# EAGLE library part LM358 (library kennethlimcp)
LM358, two independent, high-gain, Wide Supply Ranges frequency-compensated operational amplifiers MSOP-8
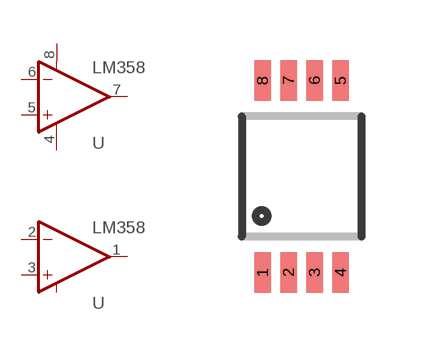
[diagram p5: symbol with the pads of MSOP-8; footprint MSOP-8]

Designator prefix -

## LM358-DGKR  [MSOP-8]
1  OUT1  out
2  -IN1  in
3  +IN1  in
4  V-  pwr
5  +IN2  in
6  -IN2  in
7  OUT2  out
8  V+  pwr

## Footprint MSOP-8 (pad centres in mm)
smd 0.41 x 1.02: 1 -0.975,-2.4; 2 -0.325,-2.4; 3 0.325,-2.4; 4 0.975,-2.4; 5 0.975,2.4; 6 0.325,2.4; 7 -0.325,2.4; 8 -0.975,2.4